# Altium footprint library Switches.PcbLib: 23 footprints (part 1 of 2)
Each footprint in its own frame and in the unit in brackets; x right, y up, seen from the top. Pads: shape width x height; smd on the part's side, far side on the other; paste and mask are expansions set on the pad; w line width, h text height; cw(c..) or ccw(c..) is an arc to the next point about the centre after c.
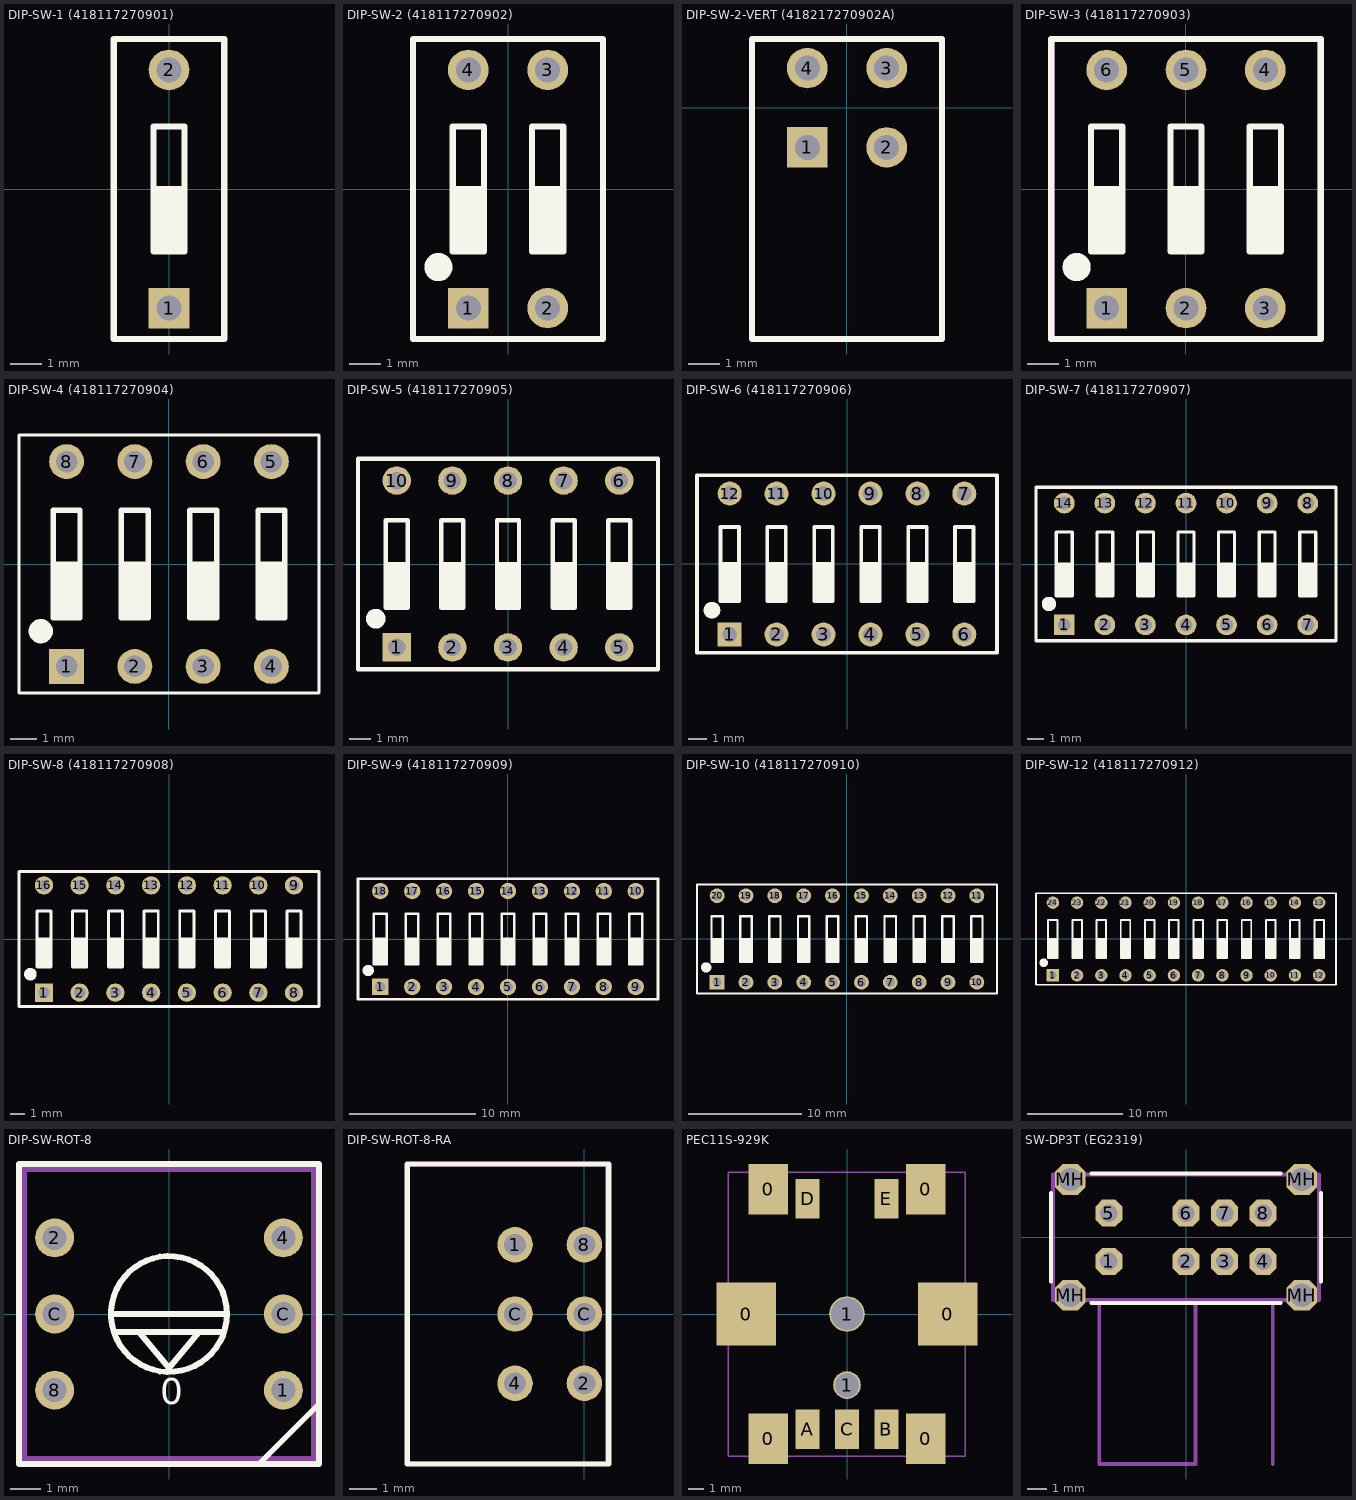
[diagram p0: the footprints below, top view; thin cyan lines are the x and y axes]

## DIP-SW-1 (418117270901) [mm] "01p, 2.54mm Pitch, Horizontal, Box Type, THT, raised Actuator, red, without Tape, Tube"
height 5.2
pads (2):
  rect 1.3x1.3 hole 0.8: 1(0,-3.81)
  round 1.3 hole 0.8: 2(0,3.81)
Top Overlay:
  rectangle: -0.5,-2 0.5,0
  lines w0.2: -0.5,0 0.5,0 ; -1.77,-4.8 -1.77,4.8 ; -1.77,-4.8 1.77,-4.8 ; -1.77,-4.8 -1.77,4.8 ; -1.77,-4.8 1.77,-4.8 ; -1.77,4.8 1.77,4.8 ; -1.77,4.8 1.77,4.8 ; 1.77,-4.8 1.77,4.8 ; 1.77,-4.8 1.77,4.8 ; -0.5,-2 0.5,-2 0.5,2 -0.5,2 -0.5,-2
3D body "418117270901.stp": height 6.5, standoff -3.8, extent -1.77,-4.8 1.77,4.8

## DIP-SW-2 (418117270902) [mm] "02p, 2.54mm Pitch, Horizontal, Box Type, THT, raised Actuator, red, without Tape, Tube"
height 5.2
pads (4):
  rect 1.3x1.3 hole 0.8: 1(-1.27,-3.81)
  round 1.3 hole 0.8: 2(1.27,-3.81) 3(1.27,3.81) 4(-1.27,3.81)
Top Overlay:
  circle w0.5: c-2.23,-2.5 r0.2
  rectangle: 0.77,-2 1.77,0
  rectangle: -1.77,-2 -0.77,0
  lines w0.2: -1.77,0 -0.77,0 ; 0.77,0 1.77,0 ; -3.04,-4.8 3.04,-4.8 ; -3.04,-4.8 -3.04,4.8 ; -3.04,-4.8 3.04,-4.8 ; -3.04,-4.8 -3.04,4.8 ; -3.04,4.8 3.04,4.8 ; -3.04,4.8 3.04,4.8 ; 3.04,-4.8 3.04,4.8 ; 3.04,-4.8 3.04,4.8 ; -1.77,-2 -1.77,2 -0.77,2 -0.77,-2 -1.77,-2 ; 0.77,-2 0.77,2 1.77,2 1.77,-2 0.77,-2
3D body "418117270902.stp": height 6.5, standoff -3.8, extent -3.04,-4.8 3.04,4.8

## DIP-SW-2-VERT (418217270902A) [mm] "02p, 2.54mm Pitch, Vertical, Box Type, THT, raised Actuator, red"
height 5.2
pads (4):
  rect 1.3x1.3 hole 0.8: 1(-1.27,-1.27)
  round 1.3 hole 0.8: 2(1.27,-1.27) 3(1.27,1.27) 4(-1.27,1.27)
Top Overlay:
  lines w0.2: -3.04,2.18 -3.04,-7.4 3.04,-7.4 3.04,2.18 ; -3.04,2.2 3.04,2.2
3D body "418217270902A_V2 (rev1).stp": height 9.95, standoff -3.05, extent -3.04,-8.65 3.04,2.18
3D body: height 2.85, standoff -23.64, extent 0,0 0,0

## DIP-SW-3 (418117270903) [mm] "03p, 2.54mm Pitch, Horizontal, Box Type, THT, raised Actuator, red, without Tape, Tube"
height 5.2
pads (6):
  rect 1.3x1.3 hole 0.8: 1(-2.54,-3.81)
  round 1.3 hole 0.8: 2(0,-3.81) 3(2.54,-3.81) 4(2.54,3.81) 5(0,3.81) 6(-2.54,3.81)
Top Overlay:
  circle w0.5: c-3.5,-2.5 r0.2
  rectangle: -3.04,-2 -2.04,0
  rectangle: -0.5,-2 0.5,0
  rectangle: 2.04,-2 3.04,0
  lines w0.2: -3.04,0 -2.04,0 ; -0.5,0 0.5,0 ; 2.04,0 3.04,0 ; -4.31,-4.8 -4.31,4.8 ; -4.31,-4.8 4.31,-4.8 ; -4.31,-4.8 -4.31,4.8 ; -4.31,-4.8 4.31,-4.8 ; -4.31,4.8 4.31,4.8 ; -4.31,4.8 4.31,4.8 ; 4.31,-4.8 4.31,4.8 ; 4.31,-4.8 4.31,4.8 ; -3.04,-2 -2.04,-2 -2.04,2 -3.04,2 -3.04,-2 ; -0.5,-2 0.5,-2 0.5,2 -0.5,2 -0.5,-2 ; 2.04,-2 3.04,-2 3.04,2 2.04,2 2.04,-2
Mechanical 13:
  lines w0.2: -4.31,-4.8 -4.31,4.8 ; -4.31,-4.8 4.31,-4.8 ; -4.31,-4.8 -4.31,4.8 ; -4.31,-4.8 4.31,-4.8 ; -4.31,4.8 4.31,4.8 ; -4.31,4.8 4.31,4.8 ; 4.31,-4.8 4.31,4.8 ; 4.31,-4.8 4.31,4.8
3D body "418117270903.stp": height 6.5, standoff -3.8, extent -4.31,-4.8 4.31,4.8

## DIP-SW-4 (418117270904) [mm] "04p, 2.54mm Pitch, Horizontal, Box Type, THT, raised Actuator, red, without Tape, Tube"
height 5.2
pads (8):
  rect 1.3x1.3 hole 0.8: 1(-3.81,-3.81)
  round 1.3 hole 0.8: 2(-1.27,-3.81) 3(1.27,-3.81) 4(3.81,-3.81) 5(3.81,3.81) 6(1.27,3.81) 7(-1.27,3.81) 8(-3.81,3.81)
Top Overlay:
  circle w0.5: c-4.77,-2.5 r0.2
  rectangle: 3.31,-2 4.31,0
  rectangle: 0.77,-2 1.77,0
  rectangle: -1.77,-2 -0.77,0
  rectangle: -4.31,-2 -3.31,0
  lines w0.127: -5.58,-4.8 -5.58,4.8 ; -5.58,-4.8 5.58,-4.8 ; -5.58,-4.8 -5.58,4.8 ; -5.58,-4.8 5.58,-4.8 ; -5.58,4.8 5.58,4.8 ; -5.58,4.8 5.58,4.8 ; 5.58,-4.8 5.58,4.8 ; 5.58,-4.8 5.58,4.8
  lines w0.2: -4.31,0 -3.31,0 ; -1.77,0 -0.77,0 ; 0.77,0 1.77,0 ; 3.31,0 4.31,0 ; -4.31,-2 -4.31,2 -3.31,2 -3.31,-2 -4.31,-2 ; -1.77,-2 -1.77,2 -0.77,2 -0.77,-2 -1.77,-2 ; 0.77,-2 0.77,2 1.77,2 1.77,-2 0.77,-2 ; 3.31,-2 3.31,2 4.31,2 4.31,-2 3.31,-2
3D body "418117270904.stp": height 6.5, standoff -3.8, extent -5.58,-4.8 5.58,4.8

## DIP-SW-5 (418117270905) [mm] "05p, 2.54mm Pitch, Horizontal, Box Type, THT, raised Actuator, red, without Tape, Tube"
height 5.2
pads (10):
  rect 1.3x1.3 hole 0.8: 1(-5.08,-3.81)
  round 1.3 hole 0.8: 2(-2.54,-3.81) 3(0,-3.81) 4(2.54,-3.81) 5(5.08,-3.81) 6(5.08,3.81) 7(2.54,3.81) 8(0,3.81) 9(-2.54,3.81) 10(-5.08,3.81)
Top Overlay:
  circle w0.5: c-6.04,-2.5 r0.2
  rectangle: 4.58,-2 5.58,0
  rectangle: 2.04,-2 3.04,0
  rectangle: -0.5,-2 0.5,0
  rectangle: -3.04,-2 -2.04,0
  rectangle: -5.58,-2 -4.58,0
  lines w0.2: -5.58,0 -4.58,0 ; -3.04,0 -2.04,0 ; -0.5,0 0.5,0 ; 2.04,0 3.04,0 ; 4.58,0 5.58,0 ; -6.85,-4.8 -6.85,4.8 ; -6.85,-4.8 6.85,-4.8 ; -6.85,-4.8 -6.85,4.8 ; -6.85,-4.8 6.85,-4.8 ; -6.85,4.8 6.85,4.8 ; -6.85,4.8 6.85,4.8 ; 6.85,-4.8 6.85,4.8 ; 6.85,-4.8 6.85,4.8 ; -5.58,-2 -5.58,2 -4.58,2 -4.58,-2 -5.58,-2 ; -3.04,-2 -3.04,2 -2.04,2 -2.04,-2 -3.04,-2 ; -0.5,-2 -0.5,2 0.5,2 0.5,-2 -0.5,-2 ; 2.04,-2 2.04,2 3.04,2 3.04,-2 2.04,-2 ; 4.58,-2 4.58,2 5.58,2 5.58,-2 4.58,-2
3D body "418117270905.stp": height 6.5, standoff -3.8, extent -6.85,-4.8 6.85,4.8

## DIP-SW-6 (418117270906) [mm] "06p, 2.54mm Pitch, Horizontal, Box Type, THT, raised Actuator, red, without Tape, Tube"
height 5.2
pads (12):
  rect 1.3x1.3 hole 0.8: 1(-6.35,-3.81)
  round 1.3 hole 0.8: 2(-3.81,-3.81) 3(-1.27,-3.81) 4(1.27,-3.81) 5(3.81,-3.81) 6(6.35,-3.81) 7(6.35,3.81) 8(3.81,3.81) 9(1.27,3.81) 10(-1.27,3.81) 11(-3.81,3.81) 12(-6.35,3.81)
Top Overlay:
  circle w0.5: c-7.31,-2.5 r0.2
  rectangle: -6.85,-2 -5.85,0
  rectangle: -4.31,-2 -3.31,0
  rectangle: -1.77,-2 -0.77,0
  rectangle: 0.77,-2 1.77,0
  rectangle: 3.31,-2 4.31,0
  rectangle: 5.85,-2 6.85,0
  lines w0.2: -6.85,0 -5.85,0 ; -4.31,0 -3.31,0 ; -1.77,0 -0.77,0 ; 0.77,0 1.77,0 ; 3.31,0 4.31,0 ; 5.85,0 6.85,0 ; -8.12,-4.8 8.12,-4.8 ; -8.12,-4.8 -8.12,4.8 ; -8.12,-4.8 8.12,-4.8 ; -8.12,-4.8 -8.12,4.8 ; -8.12,4.8 8.12,4.8 ; -8.12,4.8 8.12,4.8 ; 8.12,-4.8 8.12,4.8 ; 8.12,-4.8 8.12,4.8 ; -6.85,-2 -5.85,-2 -5.85,2 -6.85,2 -6.85,-2 ; -4.31,-2 -3.31,-2 -3.31,2 -4.31,2 -4.31,-2 ; -1.77,-2 -0.77,-2 -0.77,2 -1.77,2 -1.77,-2 ; 0.77,-2 1.77,-2 1.77,2 0.77,2 0.77,-2 ; 3.31,-2 4.31,-2 4.31,2 3.31,2 3.31,-2 ; 5.85,-2 6.85,-2 6.85,2 5.85,2 5.85,-2
3D body "418117270906.stp": height 6.5, standoff -3.8, extent -8.12,-4.8 8.12,4.8

## DIP-SW-7 (418117270907) [mm] "07p, 2.54mm Pitch, Horizontal, Box Type, THT, raised Actuator, red, without Tape, Tube"
height 5.2
pads (14):
  rect 1.3x1.3 hole 0.8: 1(-7.62,-3.81)
  round 1.3 hole 0.8: 2(-5.08,-3.81) 3(-2.54,-3.81) 4(0,-3.81) 5(2.54,-3.81) 6(5.08,-3.81) 7(7.62,-3.81) 8(7.62,3.81) 9(5.08,3.81) 10(2.54,3.81) 11(0,3.81) 12(-2.54,3.81) 13(-5.08,3.81) 14(-7.62,3.81)
Top Overlay:
  circle w0.5: c-8.58,-2.5 r0.2
  rectangle: 7.12,-2 8.12,0
  rectangle: 4.58,-2 5.58,0
  rectangle: 2.04,-2 3.04,0
  rectangle: -0.5,-2 0.5,0
  rectangle: -3.04,-2 -2.04,0
  rectangle: -5.58,-2 -4.58,0
  rectangle: -8.12,-2 -7.12,0
  lines w0.2: -8.12,0 -7.12,0 ; -5.58,0 -4.58,0 ; -3.04,0 -2.04,0 ; -0.5,0 0.5,0 ; 2.04,0 3.04,0 ; 4.58,0 5.58,0 ; 7.12,0 8.12,0 ; -9.39,-4.8 9.39,-4.8 ; -9.39,-4.8 -9.39,4.8 ; -9.39,-4.8 9.39,-4.8 ; -9.39,-4.8 -9.39,4.8 ; -9.39,4.8 9.39,4.8 ; -9.39,4.8 9.39,4.8 ; 9.39,-4.8 9.39,4.8 ; 9.39,-4.8 9.39,4.8 ; -8.12,-2 -8.12,2 -7.12,2 -7.12,-2 -8.12,-2 ; -5.58,-2 -5.58,2 -4.58,2 -4.58,-2 -5.58,-2 ; -3.04,-2 -3.04,2 -2.04,2 -2.04,-2 -3.04,-2 ; -0.5,-2 -0.5,2 0.5,2 0.5,-2 -0.5,-2 ; 2.04,-2 2.04,2 3.04,2 3.04,-2 2.04,-2 ; 4.58,-2 4.58,2 5.58,2 5.58,-2 4.58,-2 ; 7.12,-2 7.12,2 8.12,2 8.12,-2 7.12,-2
3D body "418117270907.stp": height 6.5, standoff -3.8, extent -9.39,-4.8 9.39,4.8

## DIP-SW-8 (418117270908) [mm] "08p, 2.54mm Pitch, Horizontal, Box Type, THT, raised Actuator, red, without Tape, Tube"
height 5.2
pads (16):
  rect 1.3x1.3 hole 0.8: 1(-8.89,-3.81)
  round 1.3 hole 0.8: 2(-6.35,-3.81) 3(-3.81,-3.81) 4(-1.27,-3.81) 5(1.27,-3.81) 6(3.81,-3.81) 7(6.35,-3.81) 8(8.89,-3.81) 9(8.89,3.81) 10(6.35,3.81) 11(3.81,3.81) 12(1.27,3.81) 13(-1.27,3.81) 14(-3.81,3.81) 15(-6.35,3.81) 16(-8.89,3.81)
Top Overlay:
  circle w0.5: c-9.85,-2.5 r0.2
  rectangle: 8.39,-2 9.39,0
  rectangle: 5.85,-2 6.85,0
  rectangle: 3.31,-2 4.31,0
  rectangle: 0.77,-2 1.77,0
  rectangle: -1.77,-2 -0.77,0
  rectangle: -4.31,-2 -3.31,0
  rectangle: -6.85,-2 -5.85,0
  rectangle: -9.39,-2 -8.39,0
  lines w0.2: -9.39,0 -8.39,0 ; -6.85,0 -5.85,0 ; -4.31,0 -3.31,0 ; -1.77,0 -0.77,0 ; 0.77,0 1.77,0 ; 3.31,0 4.31,0 ; 5.85,0 6.85,0 ; 8.39,0 9.39,0 ; -10.66,-4.8 10.66,-4.8 ; -10.66,-4.8 -10.66,4.8 ; -10.66,-4.8 10.66,-4.8 ; -10.66,-4.8 -10.66,4.8 ; -10.66,4.8 10.66,4.8 ; -10.66,4.8 10.66,4.8 ; 10.66,-4.8 10.66,4.8 ; 10.66,-4.8 10.66,4.8 ; -9.39,-2 -9.39,2 -8.39,2 -8.39,-2 -9.39,-2 ; -6.85,-2 -6.85,2 -5.85,2 -5.85,-2 -6.85,-2 ; -4.31,-2 -4.31,2 -3.31,2 -3.31,-2 -4.31,-2 ; -1.77,-2 -1.77,2 -0.77,2 -0.77,-2 -1.77,-2 ; 0.77,-2 0.77,2 1.77,2 1.77,-2 0.77,-2 ; 3.31,-2 3.31,2 4.31,2 4.31,-2 3.31,-2 ; 5.85,-2 5.85,2 6.85,2 6.85,-2 5.85,-2 ; 8.39,-2 8.39,2 9.39,2 9.39,-2 8.39,-2
3D body "418117270908.stp": height 6.5, standoff -3.8, extent -10.66,-4.8 10.66,4.8

## DIP-SW-9 (418117270909) [mm] "09p, 2.54mm Pitch, Horizontal, Box Type, THT, raised Actuator, red, without Tape, Tube"
height 5.2
pads (18):
  rect 1.3x1.3 hole 0.8: 1(-10.16,-3.81)
  round 1.3 hole 0.8: 2(-7.62,-3.81) 3(-5.08,-3.81) 4(-2.54,-3.81) 5(0,-3.81) 6(2.54,-3.81) 7(5.08,-3.81) 8(7.62,-3.81) 9(10.16,-3.81) 10(10.16,3.81) 11(7.62,3.81) 12(5.08,3.81) 13(2.54,3.81) 14(0,3.81) 15(-2.54,3.81) 16(-5.08,3.81) 17(-7.62,3.81) 18(-10.16,3.81)
Top Overlay:
  circle w0.5: c-11.12,-2.5 r0.2
  rectangle: -10.66,-2 -9.66,0
  rectangle: -8.12,-2 -7.12,0
  rectangle: -5.58,-2 -4.58,0
  rectangle: -3.04,-2 -2.04,0
  rectangle: -0.5,-2 0.5,0
  rectangle: 2.04,-2 3.04,0
  rectangle: 4.58,-2 5.58,0
  rectangle: 7.12,-2 8.12,0
  rectangle: 9.66,-2 10.66,0
  lines w0.2: -10.66,0 -9.66,0 ; -8.12,0 -7.12,0 ; -5.58,0 -4.58,0 ; -3.04,0 -2.04,0 ; -0.5,0 0.5,0 ; 2.04,0 3.04,0 ; 4.58,0 5.58,0 ; 7.12,0 8.12,0 ; 9.66,0 10.66,0 ; -11.93,-4.8 -11.93,4.8 ; -11.93,-4.8 11.93,-4.8 ; -11.93,-4.8 -11.93,4.8 ; -11.93,-4.8 11.93,-4.8 ; -11.93,4.8 11.93,4.8 ; -11.93,4.8 11.93,4.8 ; 11.93,-4.8 11.93,4.8 ; 11.93,-4.8 11.93,4.8 ; -10.66,-2 -9.66,-2 -9.66,2 -10.66,2 -10.66,-2 ; -8.12,-2 -7.12,-2 -7.12,2 -8.12,2 -8.12,-2 ; -5.58,-2 -4.58,-2 -4.58,2 -5.58,2 -5.58,-2 ; -3.04,-2 -2.04,-2 -2.04,2 -3.04,2 -3.04,-2 ; -0.5,-2 0.5,-2 0.5,2 -0.5,2 -0.5,-2 ; 2.04,-2 3.04,-2 3.04,2 2.04,2 2.04,-2 ; 4.58,-2 5.58,-2 5.58,2 4.58,2 4.58,-2 ; 7.12,-2 8.12,-2 8.12,2 7.12,2 7.12,-2 ; 9.66,-2 10.66,-2 10.66,2 9.66,2 9.66,-2
3D body "418117270909.stp": height 6.5, standoff -3.8, extent -11.93,-4.8 11.93,4.8

## DIP-SW-10 (418117270910) [mm] "10p, 2.54mm Pitch, Horizontal, Box Type, THT, raised Actuator, red, without Tape, Tube"
height 5.2
pads (20):
  rect 1.3x1.3 hole 0.8: 1(-11.43,-3.81)
  round 1.3 hole 0.8: 2(-8.89,-3.81) 3(-6.35,-3.81) 4(-3.81,-3.81) 5(-1.27,-3.81) 6(1.27,-3.81) 7(3.81,-3.81) 8(6.35,-3.81) 9(8.89,-3.81) 10(11.43,-3.81) 11(11.43,3.81) 12(8.89,3.81) 13(6.35,3.81) 14(3.81,3.81) 15(1.27,3.81) 16(-1.27,3.81) 17(-3.81,3.81) 18(-6.35,3.81) 19(-8.89,3.81) 20(-11.43,3.81)
Top Overlay:
  circle w0.5: c-12.39,-2.5 r0.2
  rectangle: -11.93,-2 -10.93,0
  rectangle: -9.39,-2 -8.39,0
  rectangle: -6.85,-2 -5.85,0
  rectangle: -4.31,-2 -3.31,0
  rectangle: -1.77,-2 -0.77,0
  rectangle: 0.77,-2 1.77,0
  rectangle: 3.31,-2 4.31,0
  rectangle: 5.85,-2 6.85,0
  rectangle: 8.39,-2 9.39,0
  rectangle: 10.93,-2 11.93,0
  lines w0.2: -11.93,0 -10.93,0 ; -9.39,0 -8.39,0 ; -6.85,0 -5.85,0 ; -4.31,0 -3.31,0 ; -1.77,0 -0.77,0 ; 0.77,0 1.77,0 ; 3.31,0 4.31,0 ; 5.85,0 6.85,0 ; 8.39,0 9.39,0 ; 10.93,0 11.93,0 ; -13.2,-4.8 13.2,-4.8 ; -13.2,-4.8 -13.2,4.8 ; -13.2,-4.8 13.2,-4.8 ; -13.2,-4.8 -13.2,4.8 ; -13.2,4.8 13.2,4.8 ; -13.2,4.8 13.2,4.8 ; 13.2,-4.8 13.2,4.8 ; 13.2,-4.8 13.2,4.8 ; -11.93,-2 -10.93,-2 -10.93,2 -11.93,2 -11.93,-2 ; -9.39,-2 -8.39,-2 -8.39,2 -9.39,2 -9.39,-2 ; -6.85,-2 -5.85,-2 -5.85,2 -6.85,2 -6.85,-2 ; -4.31,-2 -3.31,-2 -3.31,2 -4.31,2 -4.31,-2 ; -1.77,-2 -0.77,-2 -0.77,2 -1.77,2 -1.77,-2 ; 0.77,-2 1.77,-2 1.77,2 0.77,2 0.77,-2 ; 3.31,-2 4.31,-2 4.31,2 3.31,2 3.31,-2 ; 5.85,-2 6.85,-2 6.85,2 5.85,2 5.85,-2 ; 8.39,-2 9.39,-2 9.39,2 8.39,2 8.39,-2 ; 10.93,-2 11.93,-2 11.93,2 10.93,2 10.93,-2
3D body "418117270910.stp": height 6.5, standoff -3.8, extent -13.2,-4.8 13.2,4.8

## DIP-SW-12 (418117270912) [mm] "12p, 2.54mm Pitch, Horizontal, Box Type, THT, raised Actuator, red, without Tape, Tube"
height 5.2
pads (24):
  rect 1.3x1.3 hole 0.8: 1(-13.97,-3.81)
  round 1.3 hole 0.8: 2(-11.43,-3.81) 3(-8.89,-3.81) 4(-6.35,-3.81) 5(-3.81,-3.81) 6(-1.27,-3.81) 7(1.27,-3.81) 8(3.81,-3.81) 9(6.35,-3.81) 10(8.89,-3.81) 11(11.43,-3.81) 12(13.97,-3.81) 13(13.97,3.81) 14(11.43,3.81) 15(8.89,3.81) 16(6.35,3.81) 17(3.81,3.81) 18(1.27,3.81) 19(-1.27,3.81) 20(-3.81,3.81) 21(-6.35,3.81) 22(-8.89,3.81) 23(-11.43,3.81) 24(-13.97,3.81)
Top Overlay:
  circle w0.5: c-14.93,-2.5 r0.2
  rectangle: 13.47,-2 14.47,0
  rectangle: 10.93,-2 11.93,0
  rectangle: 8.39,-2 9.39,0
  rectangle: 5.85,-2 6.85,0
  rectangle: 3.31,-2 4.31,0
  rectangle: 0.77,-2 1.77,0
  rectangle: -1.77,-2 -0.77,0
  rectangle: -4.31,-2 -3.31,0
  rectangle: -6.85,-2 -5.85,0
  rectangle: -9.39,-2 -8.39,0
  rectangle: -11.93,-2 -10.93,0
  rectangle: -14.47,-2 -13.47,0
  lines w0.127: -15.74,-4.8 -15.74,4.8 15.74,4.8 15.74,-4.8 -15.74,-4.8
  lines w0.2: -14.47,0 -13.47,0 ; -11.93,0 -10.93,0 ; -9.39,0 -8.39,0 ; -6.85,0 -5.85,0 ; -4.31,0 -3.31,0 ; -1.77,0 -0.77,0 ; 0.77,0 1.77,0 ; 3.31,0 4.31,0 ; 5.85,0 6.85,0 ; 8.39,0 9.39,0 ; 10.93,0 11.93,0 ; 13.47,0 14.47,0 ; -15.74,-4.8 -15.74,4.8 15.74,4.8 15.74,-4.8 -15.74,-4.8 ; -14.47,-2 -14.47,2 -13.47,2 -13.47,-2 -14.47,-2 ; -11.93,-2 -11.93,2 -10.93,2 -10.93,-2 -11.93,-2 ; -9.39,-2 -9.39,2 -8.39,2 -8.39,-2 -9.39,-2 ; -6.85,-2 -6.85,2 -5.85,2 -5.85,-2 -6.85,-2 ; -4.31,-2 -4.31,2 -3.31,2 -3.31,-2 -4.31,-2 ; -1.77,-2 -1.77,2 -0.77,2 -0.77,-2 -1.77,-2 ; 0.77,-2 0.77,2 1.77,2 1.77,-2 0.77,-2 ; 3.31,-2 3.31,2 4.31,2 4.31,-2 3.31,-2 ; 5.85,-2 5.85,2 6.85,2 6.85,-2 5.85,-2 ; 8.39,-2 8.39,2 9.39,2 9.39,-2 8.39,-2 ; 10.93,-2 10.93,2 11.93,2 11.93,-2 10.93,-2 ; 13.47,-2 13.47,2 14.47,2 14.47,-2 13.47,-2
3D body "418117270912.stp": height 6.5, standoff -3.8, extent -15.74,-4.8 15.74,4.8

## DIP-SW-ROT-8 [mm] "Coded Rotary DIP Switch, 8 Position, 2.54mm Pitch"
height 5.7
pads (6):
  round 1.3 hole 0.8: 1(3.81,-2.54) 2(-3.81,2.54) 4(3.81,2.54) 8(-3.81,-2.54) C(-3.81,0) C(3.81,0)
Top Overlay:
  circle w0.2: c0,0 r1.931
  lines w0.2: -1.9,0 1.931,0 ; -1.8,-0.6 -1,-0.6 ; 1.8,-0.6 1,-0.6 ; 3,-5 5,-3 ; -1,-0.6 0,-1.8 1,-0.6 ; -1,-0.6 1,-0.6 ; -5,-5 5,-5 5,5 -5,5 -5,-5
  text "0" at -0.3,-3.3 h1.5
Mechanical 13:
  lines w0.2: -4.83,-4.83 -4.83,4.83 4.83,4.83 4.83,-4.83 -4.83,-4.83
3D body: height 5.6, standoff 0, extent -4.83,-4.83 4.83,4.83
3D body: height 5.7, standoff 0, extent -2,-2 2,2

## DIP-SW-ROT-8-RA [mm] "Coded Rotary DIP Switch, 8 Positions, Right Angle"
height 10.16
pads (6):
  round 1.3 hole 0.8: 1(-2.54,2.54) 2(0,-2.54) 4(-2.54,-2.54) 8(0,2.54) C(-2.54,0) C(0,0)
Top Overlay:
  lines w0.2: -6.5,-5.5 0.9,-5.5 0.9,5.5 0.8,5.5 -6.5,5.5 -6.5,-5.5
Mechanical 13:
  lines w0.1: -6.5,-5.46 0.8,-5.46 0.8,5.46 -6.5,5.46 -6.5,-5.46
3D body: height 10.16, standoff 0, extent -6.5,-5.46 0.8,5.46

## PEC11S-929K [mm] "Bourns - SMD rotary encoder with pushbutton, 9.5mm shaft"
pads (13):
  rect 3.75x4 smd: 0(-6.375,0) 0(6.375,0)
  rect 2.5x3.2 smd: 0(-5,-7.9) 0(-5,7.9) 0(5,-7.9) 0(5,7.9)
  round 1.75 hole 1.55 unplated: 1(0,-4.5)
  round 2.25 hole 2.05 unplated: 1(0,0)
  rect 1.5x2.5 smd: A(-2.5,-7.3) B(2.5,-7.3) C(0,-7.3) D(-2.5,7.3) E(2.5,7.3)
Mechanical 13:
  lines w0.1: -7.517,-9.022 7.483,-9.022 7.483,8.978 -7.517,8.978 -7.517,-9.022
3D body "PEC11S-929K.STP": height 14.4, standoff -0.9, extent -7.517,-9.022 7.483,8.978

## SW-DP3T (EG2319) [mm] "E-Switch; DP3T Slide Switch; PCB Mount Right Angle"
height 8.5
pads (12):
  oct 1.4x1.4 hole 0.9: 1(-4,-1.25)
  oct 1.4x1.4 hole 0.9 unplated paste+0: 2(0,-1.25) 3(2,-1.25) 4(4,-1.25) 5(-4,1.25) 6(0,1.25) 7(2,1.25) 8(4,1.25)
  oct 1.6x1.6 hole 1.2: MH(-6,-3) MH(-6,3) MH(6,-3) MH(6,3)
Top Overlay:
  lines w0.2: -7,-2.3 -7,2.3 ; -4.9,-3.4 4.9,-3.4 ; -4.9,3.3 4.9,3.3 ; 7,-2.3 7,2.3
Mechanical 13:
  lines w0.2: -4.5,-3.25 -4.5,-11.75 0.5,-11.75 0.5,-3.25 ; 4.5,-11.75 4.5,-3.25 ; -6.9,-3.25 -6.9,3.25 6.9,3.25 6.9,-3.25 -6.9,-3.25
3D body: height 7.5, standoff 3.5, extent -4.5,-11.75 0.5,-3.25
3D body: height 8.5, standoff 0, extent -6.9,-3.25 6.9,3.25